# EAGLE library part IDT71V30 (library ORBiT-IC-IDT-sram)
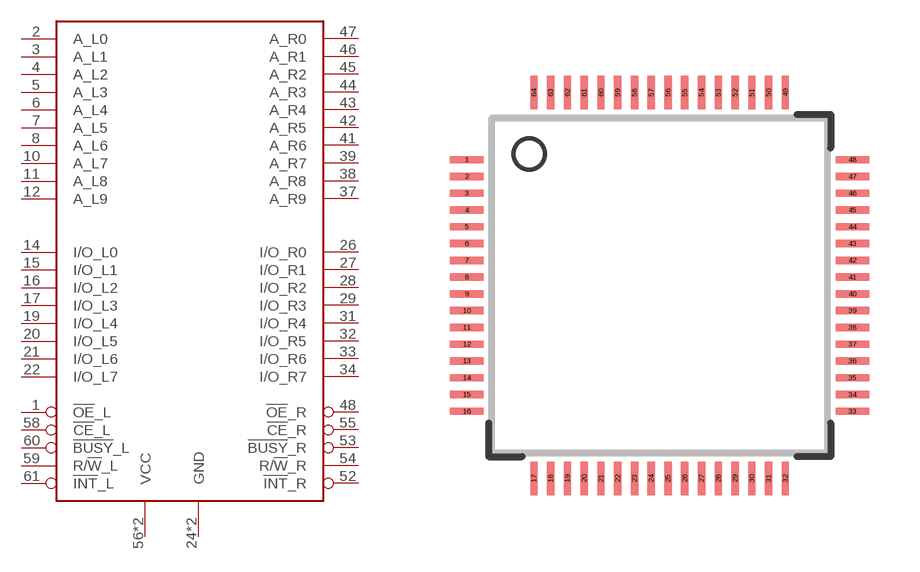
[diagram p0: symbol with the pads of TQFP64; footprint TQFP64]

Designator prefix -

## IDT71V30  [TQFP64]
1  !OE!_L
2  A_L0
3  A_L1
4  A_L2
5  A_L3
6  A_L4
7  A_L5
8  A_L6
10  A_L7
11  A_L8
12  A_L9
14  I/O_L0
15  I/O_L1
16  I/O_L2
17  I/O_L3
19  I/O_L4
20  I/O_L5
21  I/O_L6
22  I/O_L7
24  GND  pwr
25  GND  pwr
26  I/O_R0
27  I/O_R1
28  I/O_R2
29  I/O_R3
31  I/O_R4
32  I/O_R5
33  I/O_R6
34  I/O_R7
37  A_R9
38  A_R8
39  A_R7
41  A_R6
42  A_R5
43  A_R4
44  A_R3
45  A_R2
46  A_R1
47  A_R0
48  !OE!_R
52  !INT!_R
53  !BUSY!_R
54  R/!W!_R
55  !CE!_R
56  VCC  pwr
57  VCC  pwr
58  !CE!_L
59  R/!W!_L
60  !BUSY!_L
61  !INT!_L

## Footprint TQFP64 (pad centres in mm)
64-Lead TQFP Plastic Thin Quad Flatpack - 10x10x1mm Body, 2mmFP
smd 1 x 0.22: 1 -5.75,3.75; 2 -5.75,3.25; 3 -5.75,2.75; 4 -5.75,2.25; 5 -5.75,1.75; 6 -5.75,1.25; 7 -5.75,0.75; 8 -5.75,0.25; 9 -5.75,-0.25; 10 -5.75,-0.75; 11 -5.75,-1.25; 12 -5.75,-1.75; 13 -5.75,-2.25; 14 -5.75,-2.75; 15 -5.75,-3.25; 16 -5.75,-3.75; 33 5.75,-3.75; 34 5.75,-3.25; 35 5.75,-2.75; 36 5.75,-2.25; 37 5.75,-1.75; 38 5.75,-1.25; 39 5.75,-0.75; 40 5.75,-0.25; 41 5.75,0.25; 42 5.75,0.75; 43 5.75,1.25; 44 5.75,1.75; 45 5.75,2.25; 46 5.75,2.75; 47 5.75,3.25; 48 5.75,3.75
smd 0.22 x 1: 17 -3.75,-5.75; 18 -3.25,-5.75; 19 -2.75,-5.75; 20 -2.25,-5.75; 21 -1.75,-5.75; 22 -1.25,-5.75; 23 -0.75,-5.75; 24 -0.25,-5.75; 25 0.25,-5.75; 26 0.75,-5.75; 27 1.25,-5.75; 28 1.75,-5.75; 29 2.25,-5.75; 30 2.75,-5.75; 31 3.25,-5.75; 32 3.75,-5.75; 49 3.75,5.75; 50 3.25,5.75; 51 2.75,5.75; 52 2.25,5.75; 53 1.75,5.75; 54 1.25,5.75; 55 0.75,5.75; 56 0.25,5.75; 57 -0.25,5.75; 58 -0.75,5.75; 59 -1.25,5.75; 60 -1.75,5.75; 61 -2.25,5.75; 62 -2.75,5.75; 63 -3.25,5.75; 64 -3.75,5.75